# Altium integrated library bk2022.IntLib: 7 symbols
Pins are listed as number, name and electrical type; pins without a type are passive.

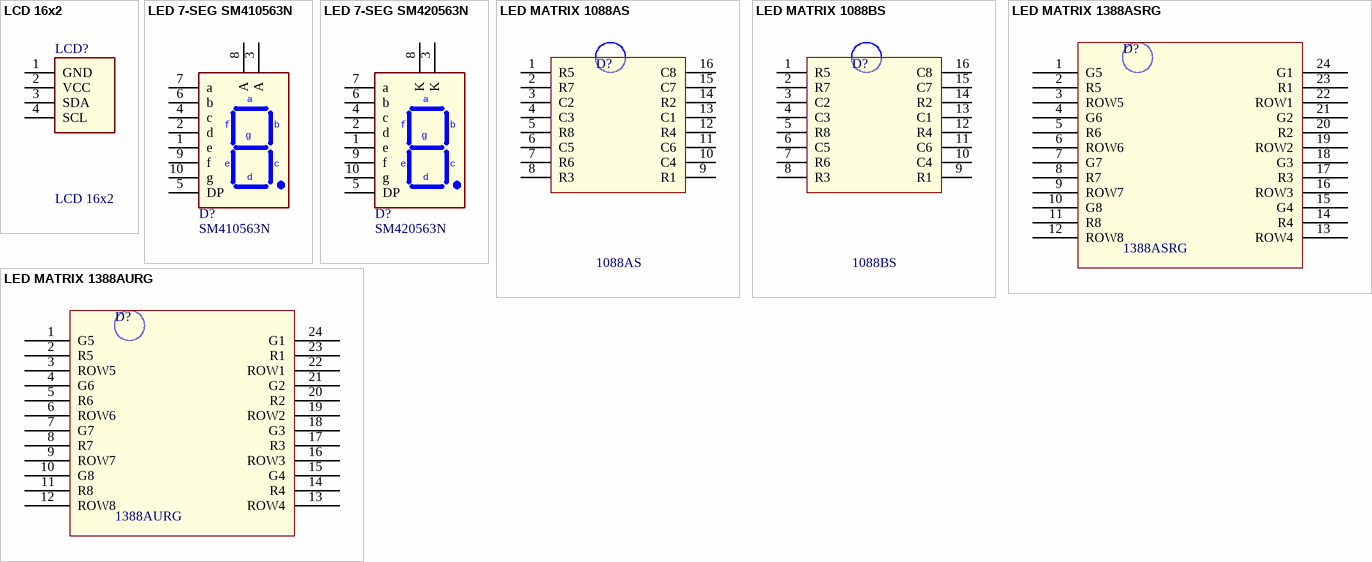
[diagram p0: symbols LCD 16x2 to LED MATRIX 1388AURG]

## LCD 16x2
designator LCD?
Character LCD 16x2
footprint LCD 1602A I2C
pins: 1 GND, 2 VCC, 3 SDA, 4 SCL

## LED 7-SEG SM410563N
designator D?, comment SM410563N
SM410563N, Common-Anode, LED 7-seg, RED, 0.56",
footprint LED/7SEG/0.56
pins: 1 e, 2 d, 3 A "Anode", 4 c, 5 DP "Dot point", 6 b, 7 a, 8 A "Anode", 9 f, 10 g

## LED 7-SEG SM420563N
designator D?, comment SM420563N
SM420563N, Common-Cathode, LED 7-seg, RED, 0.56",
footprint LED/7SEG/0.56
pins: 1 e, 2 d, 3 K "Anode", 4 c, 5 DP "Dot point", 6 b, 7 a, 8 K "Anode", 9 f, 10 g

## LED MATRIX 1088AS
designator D?, comment 1088AS
1088AS, Common-Cathode, LED Matrix 8x8, RED, 32x32mm
footprint LED/MATRIX/1088
pins: 1 R5, 2 R7, 3 C2, 4 C3, 5 R8, 6 C5, 7 R6, 8 R3, 9 R1, 10 C4, 11 C6, 12 R4, 13 C1, 14 R2, 15 C7, 16 C8

## LED MATRIX 1088BS
designator D?, comment 1088BS
1088BS, Common-Anode, LED Matrix 8x8, RED, 32x32mm
footprint LED/MATRIX/1088
pins: 1 R5, 2 R7, 3 C2, 4 C3, 5 R8, 6 C5, 7 R6, 8 R3, 9 R1, 10 C4, 11 C6, 12 R4, 13 C1, 14 R2, 15 C7, 16 C8

## LED MATRIX 1388ASRG
designator D?, comment 1388ASRG
1388ASRG, Common-Cathode, LED Matrix 8x8, RED-GREEN, 32x32mm
footprint LED/MATRIX/1388
pins: 1 G5, 2 R5, 3 ROW5, 4 G6, 5 R6, 6 ROW6, 7 G7, 8 R7, 9 ROW7, 10 G8, 11 R8, 12 ROW8, 13 ROW4, 14 R4, 15 G4, 16 ROW3, 17 R3, 18 G3, 19 ROW2, 20 R2, 21 G2, 22 ROW1, 23 R1, 24 G1

## LED MATRIX 1388AURG
designator D?, comment 1388AURG
1388AURG, Common-Anode, LED Matrix 8x8, RED-GREEN, 32x32mm
footprint LED/MATRIX/1388
pins: 1 G5, 2 R5, 3 ROW5, 4 G6, 5 R6, 6 ROW6, 7 G7, 8 R7, 9 ROW7, 10 G8, 11 R8, 12 ROW8, 13 ROW4, 14 R4, 15 G4, 16 ROW3, 17 R3, 18 G3, 19 ROW2, 20 R2, 21 G2, 22 ROW1, 23 R1, 24 G1